# Altium schematic symbol library Adder.SchLib: 2 symbols
Pins are listed as number, name and electrical type; pins without a type are passive.

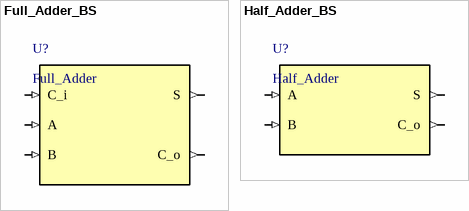
[diagram p0: symbols Full_Adder_BS to Half_Adder_BS]

## Full_Adder_BS
designator U?, comment Full_Adder
pins: A (in), B (in), C_i (in), C_O C_o (out), S (out)

## Half_Adder_BS
designator U?, comment Half_Adder
pins: A (in), B (in), C_O C_o (out), S (out)